# EAGLE library part AD747* (library 0-ADI-variety)
AD7676A/AD7477A/AD7478A 12-/10-/8-bit 1MSPS Analog to Digital Converters
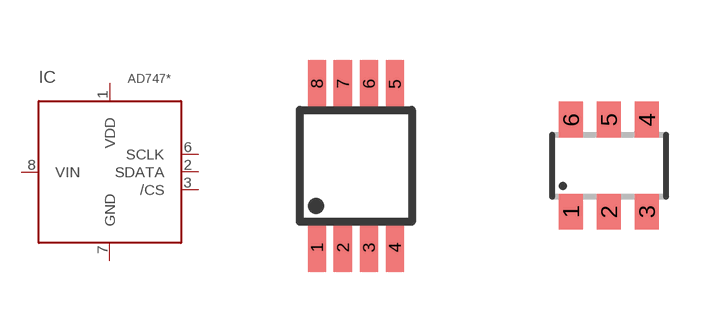
[diagram p6: symbol with the pads of MSOP8; footprints MSOP8, SOT23-6]

Designator prefix IC

## AD7476AARM, AD7477AARM, AD7478AARM  [MSOP8]
1  VDD  sup
2  SDATA  out
3  /CS  in
6  SCLK  in
7  GND  sup
8  VIN  in

## AD7476ABRM, AD7477ABRM, AD7478ABRM  [MSOP8]
Pads as for MSOP8

## AD747AKS, AD7476AAKS, AD7477AAKS, AD7478AAKS  [SOT23-6]
1  VDD  sup
2  GND  sup
3  VIN  in
4  SCLK  in
5  SDATA  out
6  /CS  in

## Footprint MSOP8 (pad centres in mm)
Micro Small Outline Package
smd 0.45 x 1.2: 1 -0.975,-2.05; 2 -0.325,-2.05; 3 0.325,-2.05; 4 0.975,-2.05; 5 0.975,2.05; 6 0.325,2.05; 7 -0.325,2.05; 8 -0.975,2.05

## Footprint SOT23-6 (pad centres in mm)
Small Outline Transistor 6 lead
smd 0.6 x 0.9: 1 -0.95,-1.15; 2 0,-1.15; 3 0.95,-1.15; 4 0.95,1.15; 5 0,1.15; 6 -0.95,1.15